# EAGLE library part DUMMY_RADINO (library radino)
radino DUMMY Description Dummy for In-Circuit radino modules, which combines an ATmega32U4 (Arduino Micro) with a radio chip in a small form-factor EMC-compliant enclosure. Notes: if it is not clear which module should be used, then use the radino32 DUMMY Modul-specific Arduino libraries and additional information are available at: in-circuit.de/product_info <http://shop.in-circuit.de/index.php?cPath=22_27> For more Products and Arduino compatible RF-Modules please visit our website: shop.in-circuit.de <http://shop.in-circuit.de/index.php>
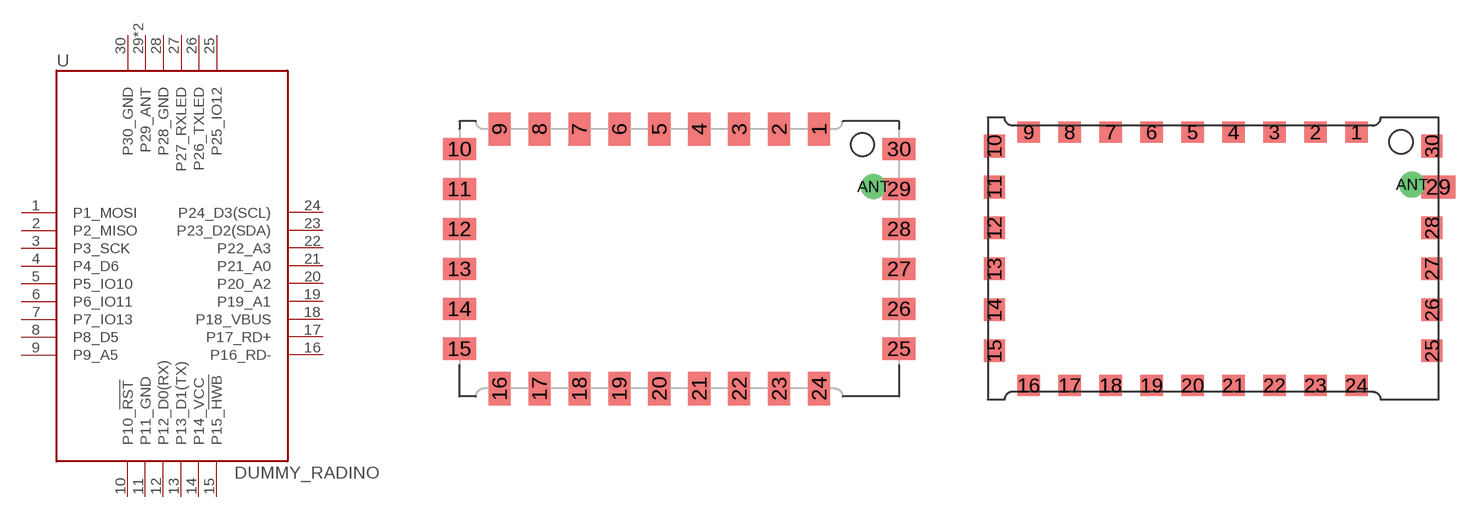
[diagram p13: symbol with the pads of RADINO; footprints RADINO, RADINO_SHORT_PINS]

Designator prefix -

## DUMMY_RADINO  [RADINO]
1  P1_MOSI
2  P2_MISO
3  P3_SCK
4  P4_D6
5  P5_IO10
6  P6_IO11
7  P7_IO13
8  P8_D5
9  P9_A5
10  P10_!RST
11  P11_GND  pwr
12  P12_D0(RX)
13  P13_D1(TX)
14  P14_VCC
15  P15_!HWB
16  P16_RD-
17  P17_RD+
18  P18_VBUS
19  P19_A1
20  P20_A2
21  P21_A0
22  P22_A3
23  P23_D2(SDA)
24  P24_D3(SCL)
25  P25_IO12
26  P26_TXLED
27  P27_RXLED
28  P28_GND  pas
29  P29_ANT
30  P30_GND  pwr
ANT  P29_ANT

## DUMMY_RADINO_SP  [RADINO_SHORT_PINS]
Pads as for RADINO

## Footprint RADINO (pad centres in mm)
radino standard footprint Standard radino footprint suitable for manual and reflow soldering. The footprint is designed to take up all devices of the radino familie.
smd 1.4 x 2.1: 1 8.89,8.255; 2 6.35,8.255; 3 3.81,8.255; 4 1.27,8.255; 5 -1.27,8.255; 6 -3.81,8.255; 7 -6.35,8.255; 8 -8.89,8.255; 9 -11.43,8.255; 16 -11.43,-8.255; 17 -8.89,-8.255; 18 -6.35,-8.255; 19 -3.81,-8.255; 20 -1.27,-8.255; 21 1.27,-8.255; 22 3.81,-8.255; 23 6.35,-8.255; 24 8.89,-8.255
smd 2.1 x 1.4: 10 -13.97,6.985; 11 -13.97,4.445; 12 -13.97,1.905; 13 -13.97,-0.635; 14 -13.97,-3.175; 15 -13.97,-5.715; 25 13.97,-5.715; 26 13.97,-3.175; 27 13.97,-0.635; 28 13.97,1.905; 29 13.97,4.445; 30 13.97,6.985
drill 0.91 pad 1.6: ANT 12.339,4.592

## Footprint RADINO_SHORT_PINS (pad centres in mm)
radino short pins footprint Extra small radino footprint suitable for space limited applicaion an reflow soldering. The footprint is designed to take up all devices of the radino familie. Notes: Manual soldering is not recommended when using this footprint
smd 1.4 x 1.295: 1 8.89,7.853; 2 6.35,7.853; 3 3.81,7.853; 4 1.27,7.853; 5 -1.27,7.853; 6 -3.81,7.853; 7 -6.35,7.853; 8 -8.89,7.853; 9 -11.43,7.853; 16 -11.43,-7.853; 17 -8.89,-7.853; 18 -6.35,-7.853; 19 -3.81,-7.853; 20 -1.27,-7.853; 21 1.27,-7.853; 22 3.81,-7.853; 23 6.35,-7.853; 24 8.89,-7.853
smd 1.295 x 1.4: 10 -13.568,6.985; 11 -13.568,4.445; 12 -13.568,1.905; 13 -13.568,-0.635; 14 -13.568,-3.175; 15 -13.568,-5.715; 25 13.568,-5.715; 26 13.568,-3.175; 27 13.568,-0.635; 28 13.568,1.905; 30 13.568,6.985
smd 2.1 x 1.4: 29 13.97,4.445
drill 0.91 pad 1.6: ANT 12.339,4.592